# Altium footprint library ILD207.PcbLib: 2 footprints
Each footprint in its own frame and in the unit in brackets; x right, y up, seen from the top. Pads: shape width x height; smd on the part's side, far side on the other; paste and mask are expansions set on the pad; w line width, h text height; cw(c..) or ccw(c..) is an arc to the next point about the centre after c.
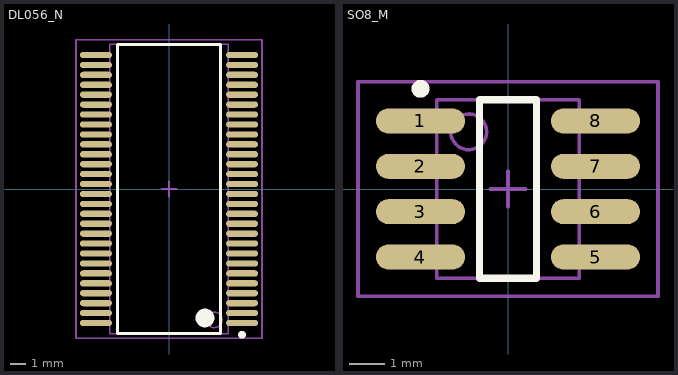
[diagram p0: the footprints below, top view; thin cyan lines are the x and y axes]

## DL056_N [mm] "SOP, 56-Leads, Body 18.4x7.5mm, Pitch 0.635mm, IPC Medium Density"
height 2.79
pads (56):
  oval 2.05x0.4 smd: 1(4.675,-8.572) 2(4.675,-7.938) 3(4.675,-7.302) 4(4.675,-6.667) 5(4.675,-6.032) 6(4.675,-5.397) 7(4.675,-4.763) 8(4.675,-4.127) 9(4.675,-3.492) 10(4.675,-2.857) 11(4.675,-2.222) 12(4.675,-1.587) 13(4.675,-0.953) 14(4.675,-0.318) 15(4.675,0.318) 16(4.675,0.953) 17(4.675,1.587) 18(4.675,2.222) 19(4.675,2.857) 20(4.675,3.492) 21(4.675,4.127) 22(4.675,4.763) 23(4.675,5.397) 24(4.675,6.032) 25(4.675,6.667) 26(4.675,7.302) 27(4.675,7.938) 28(4.675,8.572) 29(-4.675,8.572) 30(-4.675,7.938) 31(-4.675,7.302) 32(-4.675,6.667) 33(-4.675,6.032) 34(-4.675,5.397) 35(-4.675,4.763) 36(-4.675,4.127) 37(-4.675,3.492) 38(-4.675,2.857) 39(-4.675,2.222) 40(-4.675,1.587) 41(-4.675,0.953) 42(-4.675,0.318) 43(-4.675,-0.318) 44(-4.675,-0.953) 45(-4.675,-1.587) 46(-4.675,-2.222) 47(-4.675,-2.857) 48(-4.675,-3.492) 49(-4.675,-4.127) 50(-4.675,-4.763) 51(-4.675,-5.397) 52(-4.675,-6.032) 53(-4.675,-6.667) 54(-4.675,-7.302) 55(-4.675,-7.938) 56(-4.675,-8.572)
Top Overlay:
  circle w0.25: c4.675,-9.323 r0.125
  circle w0.6: c2.3,-8.25 r0.3
  lines w0.2: -3.3,-9.25 -3.3,9.25 3.3,9.25 3.3,-9.25 -3.3,-9.25
Mechanical 13:
  circle w0.1: c2.895,-8.37 r0.5
  lines w0.1: -3.795,-9.27 -3.795,9.27 3.795,9.27 3.795,-9.27 -3.795,-9.27
Mechanical 15:
  lines w0.1: -0.5,0 0.5,0 ; 0,-0.5 0,0.5 ; -5.95,-9.55 -5.95,9.55 5.95,9.55 5.95,-9.55 -5.95,-9.55
3D body: height 2.79, standoff 0, extent -3.795,-9.27 3.795,9.27

## SO8_M [mm] "SOIC, 8-Leads, Body 4.9x3.9mm, Pitch 1.27mm, IPC Low Density"
height 1.75
pads (8):
  oval 2.5x0.7 smd: 1(-2.45,1.905) 2(-2.45,0.635) 3(-2.45,-0.635) 4(-2.45,-1.905) 5(2.45,-1.905) 6(2.45,-0.635) 7(2.45,0.635) 8(2.45,1.905)
Top Overlay:
  circle w0.25: c-2.45,2.805 r0.125
  lines w0.2: -0.8,-2.5 -0.8,2.5 0.8,2.5 0.8,-2.5 -0.8,-2.5
Mechanical 13:
  circle w0.1: c-1.1,1.6 r0.5
  lines w0.1: -2,-2.5 -2,2.5 2,2.5 2,-2.5 -2,-2.5
Mechanical 15:
  lines w0.1: -0.5,0 0.5,0 ; 0,-0.5 0,0.5 ; -4.2,-3 -4.2,3 4.2,3 4.2,-3 -4.2,-3
3D body: height 1.75, standoff 0, extent -2,-2.5 2,2.5